# Altium footprint library ST.PcbLib: 22 footprints (part 1 of 2)
Each footprint in its own frame and in the unit in brackets; x right, y up, seen from the top. Pads: shape width x height; smd on the part's side, far side on the other; paste and mask are expansions set on the pad; w line width, h text height; cw(c..) or ccw(c..) is an arc to the next point about the centre after c.
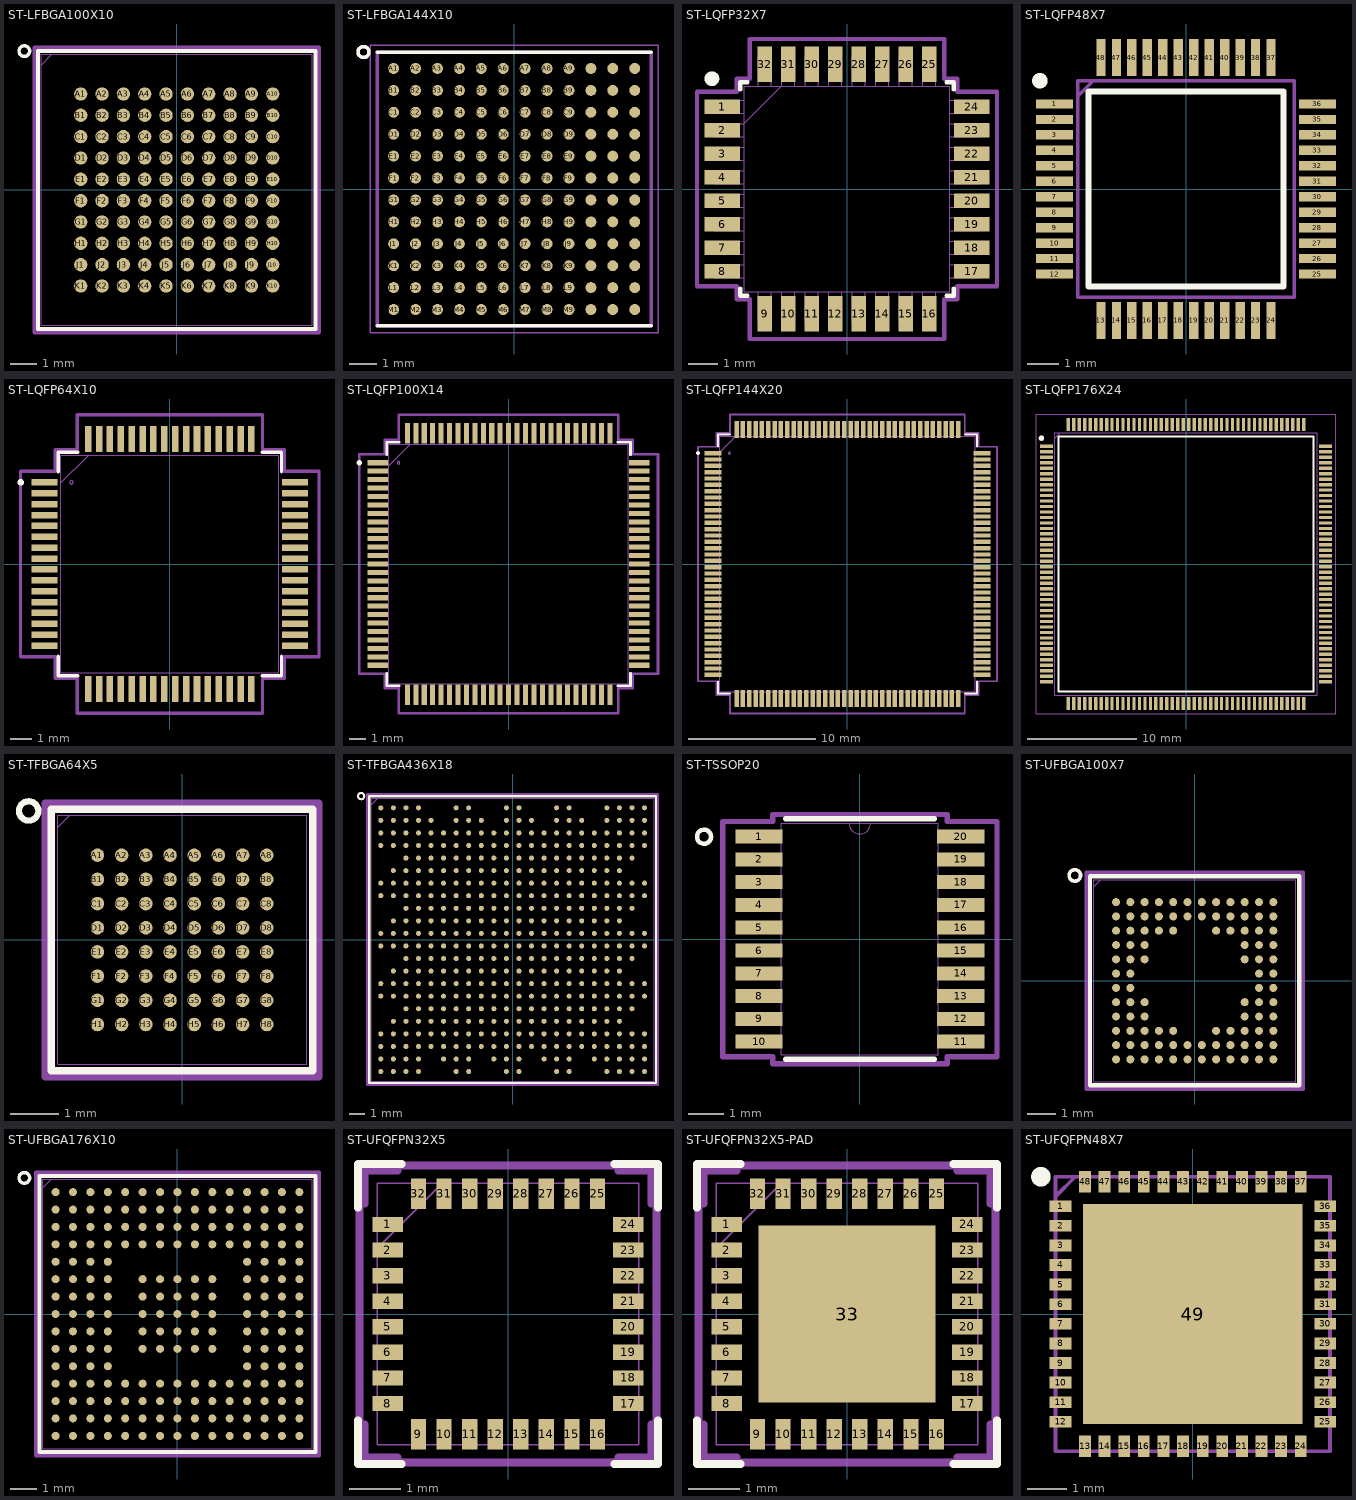
[diagram p0: the footprints below, top view; thin cyan lines are the x and y axes]

## ST-LFBGA100X10 [mm] "意法半导体 LFBGA100 10x10x1.7mm P 08推荐封装"
pads (100):
  round 0.5 smd mask+0.035: A1(-3.6,3.6) A2(-2.8,3.6) A3(-2,3.6) A4(-1.2,3.6) A5(-0.4,3.6) A6(0.4,3.6) A7(1.2,3.6) A8(2,3.6) A9(2.8,3.6) A10(3.6,3.6) B1(-3.6,2.8) B2(-2.8,2.8) B3(-2,2.8) B4(-1.2,2.8) B5(-0.4,2.8) B6(0.4,2.8) B7(1.2,2.8) B8(2,2.8) B9(2.8,2.8) B10(3.6,2.8) C1(-3.6,2) C2(-2.8,2) C3(-2,2) C4(-1.2,2) C5(-0.4,2) C6(0.4,2) C7(1.2,2) C8(2,2) C9(2.8,2) C10(3.6,2) D1(-3.6,1.2) D2(-2.8,1.2) D3(-2,1.2) D4(-1.2,1.2) D5(-0.4,1.2) D6(0.4,1.2) D7(1.2,1.2) D8(2,1.2) D9(2.8,1.2) D10(3.6,1.2) E1(-3.6,0.4) E2(-2.8,0.4) E3(-2,0.4) E4(-1.2,0.4) E5(-0.4,0.4) E6(0.4,0.4) E7(1.2,0.4) E8(2,0.4) E9(2.8,0.4) E10(3.6,0.4) F1(-3.6,-0.4) F2(-2.8,-0.4) F3(-2,-0.4) F4(-1.2,-0.4) F5(-0.4,-0.4) F6(0.4,-0.4) F7(1.2,-0.4) F8(2,-0.4) F9(2.8,-0.4) F10(3.6,-0.4) G1(-3.6,-1.2) G2(-2.8,-1.2) G3(-2,-1.2) G4(-1.2,-1.2) G5(-0.4,-1.2) G6(0.4,-1.2) G7(1.2,-1.2) G8(2,-1.2) G9(2.8,-1.2) G10(3.6,-1.2) H1(-3.6,-2) H2(-2.8,-2) H3(-2,-2) H4(-1.2,-2) H5(-0.4,-2) H6(0.4,-2) H7(1.2,-2) H8(2,-2) H9(2.8,-2) H10(3.6,-2) J1(-3.6,-2.8) J2(-2.8,-2.8) J3(-2,-2.8) J4(-1.2,-2.8) J5(-0.4,-2.8) J6(0.4,-2.8) J7(1.2,-2.8) J8(2,-2.8) J9(2.8,-2.8) J10(3.6,-2.8) K1(-3.6,-3.6) K2(-2.8,-3.6) K3(-2,-3.6) K4(-1.2,-3.6) K5(-0.4,-3.6) K6(0.4,-3.6) K7(1.2,-3.6) K8(2,-3.6) K9(2.8,-3.6) K10(3.6,-3.6)
Top Overlay:
  circle w0.127: c-5.715,5.207 r0.2
  lines w0.152: -5.207,-5.207 5.207,-5.207 5.207,5.207 -5.207,5.207 -5.207,-5.207
Mechanical 13:
  lines w0.025: -5.08,4.68 -4.68,5.08 ; -5.08,-5.08 5.08,-5.08 5.08,5.08 -5.08,5.08 -5.08,-5.08
Mechanical 15:
  lines w0.152: -5.334,-5.334 -5.334,5.334 5.334,5.334 5.334,-5.334 -5.334,-5.334
3D body "LFBGA100.step": height 1.7, standoff 0, extent -5.08,-5.08 5.08,5.08

## ST-LFBGA144X10 [mm] "意法半导体 LFBGA144 10x10x1.7mm P 0.8推荐封装"
pads (144):
  round 0.4 smd mask+0.035: A1(-4.4,4.4) A2(-3.6,4.4) A3(-2.8,4.4) A4(-2,4.4) A5(-1.2,4.4) A6(-0.4,4.4) A7(0.4,4.4) A8(1.2,4.4) A9(2,4.4) A10(2.8,4.4) A11(3.6,4.4) A12(4.4,4.4) B1(-4.4,3.6) B2(-3.6,3.6) B3(-2.8,3.6) B4(-2,3.6) B5(-1.2,3.6) B6(-0.4,3.6) B7(0.4,3.6) B8(1.2,3.6) B9(2,3.6) B10(2.8,3.6) B11(3.6,3.6) B12(4.4,3.6) C1(-4.4,2.8) C2(-3.6,2.8) C3(-2.8,2.8) C4(-2,2.8) C5(-1.2,2.8) C6(-0.4,2.8) C7(0.4,2.8) C8(1.2,2.8) C9(2,2.8) C10(2.8,2.8) C11(3.6,2.8) C12(4.4,2.8) D1(-4.4,2) D2(-3.6,2) D3(-2.8,2) D4(-2,2) D5(-1.2,2) D6(-0.4,2) D7(0.4,2) D8(1.2,2) D9(2,2) D10(2.8,2) D11(3.6,2) D12(4.4,2) E1(-4.4,1.2) E2(-3.6,1.2) E3(-2.8,1.2) E4(-2,1.2) E5(-1.2,1.2) E6(-0.4,1.2) E7(0.4,1.2) E8(1.2,1.2) E9(2,1.2) E10(2.8,1.2) E11(3.6,1.2) E12(4.4,1.2) F1(-4.4,0.4) F2(-3.6,0.4) F3(-2.8,0.4) F4(-2,0.4) F5(-1.2,0.4) F6(-0.4,0.4) F7(0.4,0.4) F8(1.2,0.4) F9(2,0.4) F10(2.8,0.4) F11(3.6,0.4) F12(4.4,0.4) G1(-4.4,-0.4) G2(-3.6,-0.4) G3(-2.8,-0.4) G4(-2,-0.4) G5(-1.2,-0.4) G6(-0.4,-0.4) G7(0.4,-0.4) G8(1.2,-0.4) G9(2,-0.4) G10(2.8,-0.4) G11(3.6,-0.4) G12(4.4,-0.4) H1(-4.4,-1.2) H2(-3.6,-1.2) H3(-2.8,-1.2) H4(-2,-1.2) H5(-1.2,-1.2) H6(-0.4,-1.2) H7(0.4,-1.2) H8(1.2,-1.2) H9(2,-1.2) H10(2.8,-1.2) H11(3.6,-1.2) H12(4.4,-1.2) J1(-4.4,-2) J2(-3.6,-2) J3(-2.8,-2) J4(-2,-2) J5(-1.2,-2) J6(-0.4,-2) J7(0.4,-2) J8(1.2,-2) J9(2,-2) J10(2.8,-2) J11(3.6,-2) J12(4.4,-2) K1(-4.4,-2.8) K2(-3.6,-2.8) K3(-2.8,-2.8) K4(-2,-2.8) K5(-1.2,-2.8) K6(-0.4,-2.8) K7(0.4,-2.8) K8(1.2,-2.8) K9(2,-2.8) K10(2.8,-2.8) K11(3.6,-2.8) K12(4.4,-2.8) L1(-4.4,-3.6) L2(-3.6,-3.6) L3(-2.8,-3.6) L4(-2,-3.6) L5(-1.2,-3.6) L6(-0.4,-3.6) L7(0.4,-3.6) L8(1.2,-3.6) L9(2,-3.6) L10(2.8,-3.6) L11(3.6,-3.6) L12(4.4,-3.6) M1(-4.4,-4.4) M2(-3.6,-4.4) M3(-2.8,-4.4) M4(-2,-4.4) M5(-1.2,-4.4) M6(-0.4,-4.4) M7(0.4,-4.4) M8(1.2,-4.4) M9(2,-4.4) M10(2.8,-4.4) M11(3.6,-4.4) M12(4.4,-4.4)
Top Overlay:
  circle w0.127: c-5.5,5 r0.2
  lines w0.127: -5,-5 5,-5 ; -5,5 5,5
Mechanical 13:
  circle w0.127: c-5.5,5 r0.2
  lines w0.127: -5,-5 5,-5 5,5 -5,5 -5,-5
Mechanical 15:
  lines w0.05: -5.25,-5.25 5.25,-5.25 5.25,5.25 -5.25,5.25 -5.25,-5.25
3D body "LFBGA144.step": height 1.7, standoff 0, extent -5.08,-5.08 5.08,5.08

## ST-LQFP32X7 [mm] "意法半导体 LQFP32 7X7mm推荐封装"
pads (32):
  rect 1.2x0.5 smd mask+0.05: 1(-4.25,2.8) 2(-4.25,2) 3(-4.25,1.2) 4(-4.25,0.4) 5(-4.25,-0.4) 6(-4.25,-1.2) 7(-4.25,-2) 8(-4.25,-2.8) 17(4.25,-2.8) 18(4.25,-2) 19(4.25,-1.2) 20(4.25,-0.4) 21(4.25,0.4) 22(4.25,1.2) 23(4.25,2) 24(4.25,2.8)
  rect 0.5x1.2 smd mask+0.05: 9(-2.8,-4.25) 10(-2,-4.25) 11(-1.2,-4.25) 12(-0.4,-4.25) 13(0.4,-4.25) 14(1.2,-4.25) 15(2,-4.25) 16(2.8,-4.25) 25(2.8,4.25) 26(2,4.25) 27(1.2,4.25) 28(0.4,4.25) 29(-0.4,4.25) 30(-1.2,4.25) 31(-2,4.25) 32(-2.8,4.25)
Top Overlay:
  circle w0.25: c-4.598,3.754 r0.125
  lines w0.152: -3.632,-3.387 -3.632,-3.632 -3.387,-3.632 ; -3.632,3.387 -3.632,3.632 -3.387,3.632 ; 3.387,-3.632 3.632,-3.632 3.632,-3.387 ; 3.387,3.632 3.632,3.632 3.632,3.387
Mechanical 13:
  lines w0.025: -3.505,2.235 -2.235,3.505 ; -4.496,-3.029 -4.496,-2.571 -3.505,-2.571 -3.505,-3.029 -4.496,-3.029 ; -4.496,-2.229 -4.496,-1.771 -3.505,-1.771 -3.505,-2.229 -4.496,-2.229 ; -4.496,-1.429 -4.496,-0.971 -3.505,-0.971 -3.505,-1.429 -4.496,-1.429 ; -4.496,-0.629 -4.496,-0.171 -3.505,-0.171 -3.505,-0.629 -4.496,-0.629 ; -4.496,0.171 -4.496,0.629 -3.505,0.629 -3.505,0.171 -4.496,0.171 ; -4.496,0.971 -4.496,1.429 -3.505,1.429 -3.505,0.971 -4.496,0.971 ; -4.496,1.771 -4.496,2.229 -3.505,2.229 -3.505,1.771 -4.496,1.771 ; -4.496,2.571 -4.496,3.029 -3.505,3.029 -3.505,2.571 -4.496,2.571 ; -3.505,-3.505 3.505,-3.505 3.505,3.505 -3.505,3.505 -3.505,-3.505 ; -3.029,-4.496 -3.029,-3.505 -2.571,-3.505 -2.571,-4.496 -3.029,-4.496 ; -3.029,3.505 -2.571,3.505 -2.571,4.496 -3.029,4.496 -3.029,3.505 ; -2.229,-4.496 -2.229,-3.505 -1.771,-3.505 -1.771,-4.496 -2.229,-4.496 ; -2.229,3.505 -1.771,3.505 -1.771,4.496 -2.229,4.496 -2.229,3.505 ; -1.429,-4.496 -1.429,-3.505 -0.971,-3.505 -0.971,-4.496 -1.429,-4.496 ; -1.429,3.505 -0.971,3.505 -0.971,4.496 -1.429,4.496 -1.429,3.505 ; -0.629,-4.496 -0.629,-3.505 -0.171,-3.505 -0.171,-4.496 -0.629,-4.496 ; -0.629,3.505 -0.171,3.505 -0.171,4.496 -0.629,4.496 -0.629,3.505 ; 0.171,-4.496 0.171,-3.505 0.629,-3.505 0.629,-4.496 0.171,-4.496 ; 0.171,3.505 0.629,3.505 0.629,4.496 0.171,4.496 0.171,3.505 ; 0.971,-4.496 0.971,-3.505 1.429,-3.505 1.429,-4.496 0.971,-4.496 ; 0.971,3.505 1.429,3.505 1.429,4.496 0.971,4.496 0.971,3.505 ; 1.771,-4.496 1.771,-3.505 2.229,-3.505 2.229,-4.496 1.771,-4.496 ; 1.771,3.505 2.229,3.505 2.229,4.496 1.771,4.496 1.771,3.505 ; 2.571,-4.496 2.571,-3.505 3.029,-3.505 3.029,-4.496 2.571,-4.496 ; 2.571,3.505 3.029,3.505 3.029,4.496 2.571,4.496 2.571,3.505 ; 3.505,-3.029 3.505,-2.571 4.496,-2.571 4.496,-3.029 3.505,-3.029 ; 3.505,-2.229 3.505,-1.771 4.496,-1.771 4.496,-2.229 3.505,-2.229 ; 3.505,-1.429 3.505,-0.971 4.496,-0.971 4.496,-1.429 3.505,-1.429 ; 3.505,-0.629 3.505,-0.171 4.496,-0.171 4.496,-0.629 3.505,-0.629 ; 3.505,0.171 3.505,0.629 4.496,0.629 4.496,0.171 3.505,0.171 ; 3.505,0.971 3.505,1.429 4.496,1.429 4.496,0.971 3.505,0.971 ; 3.505,1.771 3.505,2.229 4.496,2.229 4.496,1.771 3.505,1.771 ; 3.505,2.571 3.505,3.029 4.496,3.029 4.496,2.571 3.505,2.571
Mechanical 15:
  lines w0.152: -5.105,-3.308 -3.759,-3.308 -3.759,-3.759 -3.308,-3.759 -3.308,-5.105 3.308,-5.105 3.308,-3.759 3.759,-3.759 3.759,-3.308 5.105,-3.308 5.105,3.308 3.759,3.308 3.759,3.759 3.308,3.759 3.308,5.105 -3.308,5.105 -3.308,3.759 -3.759,3.759 -3.759,3.308 -5.105,3.308 -5.105,-3.308
3D body "LQFP32.step": height 1.6, standoff 0, extent -4.496,-4.496 4.496,4.496

## ST-LQFP48X7 [mm] "意法半导体 LQFP48 7x7mm推荐封装"
pads (48):
  rect 1.2x0.3 smd mask+0.07: 1(-4.25,2.75) 2(-4.25,2.25) 3(-4.25,1.75) 4(-4.25,1.25) 5(-4.25,0.75) 6(-4.25,0.25) 7(-4.25,-0.25) 8(-4.25,-0.75) 9(-4.25,-1.25) 10(-4.25,-1.75) 11(-4.25,-2.25) 12(-4.25,-2.75) 25(4.25,-2.75) 26(4.25,-2.25) 27(4.25,-1.75) 28(4.25,-1.25) 29(4.25,-0.75) 30(4.25,-0.25) 31(4.25,0.25) 32(4.25,0.75) 33(4.25,1.25) 34(4.25,1.75) 35(4.25,2.25) 36(4.25,2.75)
  rect 0.3x1.2 smd mask+0.07: 13(-2.75,-4.25) 14(-2.25,-4.25) 15(-1.75,-4.25) 16(-1.25,-4.25) 17(-0.75,-4.25) 18(-0.25,-4.25) 19(0.25,-4.25) 20(0.75,-4.25) 21(1.25,-4.25) 22(1.75,-4.25) 23(2.25,-4.25) 24(2.75,-4.25) 37(2.75,4.25) 38(2.25,4.25) 39(1.75,4.25) 40(1.25,4.25) 41(0.75,4.25) 42(0.25,4.25) 43(-0.25,4.25) 44(-0.75,4.25) 45(-1.25,4.25) 46(-1.75,4.25) 47(-2.25,4.25) 48(-2.75,4.25)
Top Overlay:
  circle w0.25: c-4.725,3.5 r0.125
  lines w0.2: -3.15,-3.15 -3.15,3.15 3.15,3.15 3.15,-3.15 -3.15,-3.15
Mechanical 15:
  lines w0.1: -3.5,3 -3,3.5 ; -3.5,-3.5 -3.5,3.5 3.5,3.5 3.5,-3.5 -3.5,-3.5
3D body "LQFP48X7.stp": height 1.6, standoff 0, extent -4.5,-4.5 4.5,4.5

## ST-LQFP64X10 [mm] "意法半导体 LQFP64 10X10x1.4mm推荐封装"
pads (64):
  rect 1.2x0.3 smd paste+0 mask+0.05: 1(-5.75,3.75) 2(-5.75,3.25) 3(-5.75,2.75) 4(-5.75,2.25) 5(-5.75,1.75) 6(-5.75,1.25) 7(-5.75,0.75) 8(-5.75,0.25) 9(-5.75,-0.25) 10(-5.75,-0.75) 11(-5.75,-1.25) 12(-5.75,-1.75) 13(-5.75,-2.25) 14(-5.75,-2.75) 15(-5.75,-3.25) 16(-5.75,-3.75) 33(5.75,-3.75) 34(5.75,-3.25) 35(5.75,-2.75) 36(5.75,-2.25) 37(5.75,-1.75) 38(5.75,-1.25) 39(5.75,-0.75) 40(5.75,-0.25) 41(5.75,0.25) 42(5.75,0.75) 43(5.75,1.25) 44(5.75,1.75) 45(5.75,2.25) 46(5.75,2.75) 47(5.75,3.25) 48(5.75,3.75)
  rect 0.3x1.2 smd paste+0 mask+0.05: 17(-3.75,-5.75) 18(-3.25,-5.75) 19(-2.75,-5.75) 20(-2.25,-5.75) 21(-1.75,-5.75) 22(-1.25,-5.75) 23(-0.75,-5.75) 24(-0.25,-5.75) 25(0.25,-5.75) 26(0.75,-5.75) 27(1.25,-5.75) 28(1.75,-5.75) 29(2.25,-5.75) 30(2.75,-5.75) 31(3.25,-5.75) 32(3.75,-5.75) 49(3.75,5.75) 50(3.25,5.75) 51(2.75,5.75) 52(2.25,5.75) 53(1.75,5.75) 54(1.25,5.75) 55(0.75,5.75) 56(0.25,5.75) 57(-0.25,5.75) 58(-0.75,5.75) 59(-1.25,5.75) 60(-1.75,5.75) 61(-2.25,5.75) 62(-2.75,5.75) 63(-3.25,5.75) 64(-3.75,5.75)
Top Overlay:
  circle w0.152: c-6.851,3.75 r0.076
  lines w0.152: -5.131,-4.234 -5.131,-5.131 -4.234,-5.131 ; -5.131,4.234 -5.131,5.131 -4.234,5.131 ; 4.234,-5.131 5.131,-5.131 5.131,-4.234 ; 4.234,5.131 5.131,5.131 5.131,4.234
Mechanical 13:
  circle w0: c-4.518,3.75 r0.076
  lines w0.025: -5.004,3.734 -3.734,5.004 ; -5.004,-5.004 5.004,-5.004 5.004,5.004 -5.004,5.004 -5.004,-5.004
Mechanical 15:
  lines w0.152: -6.855,-4.258 -5.258,-4.258 -5.258,-5.258 -4.258,-5.258 -4.258,-6.855 4.258,-6.855 4.258,-5.258 5.258,-5.258 5.258,-4.258 6.855,-4.258 6.855,4.258 5.258,4.258 5.258,5.258 4.258,5.258 4.258,6.855 -4.258,6.855 -4.258,5.258 -5.258,5.258 -5.258,4.258 -6.855,4.258 -6.855,-4.258
3D body "LQFP64X10.step": height 1.6, standoff 0, extent -5.997,-5.997 5.997,5.997

## ST-LQFP100X14 [mm] "意法半导体 LQFP64 10X10x1.4mm推荐封装"
pads (100):
  rect 1.2x0.3 smd mask+0.05: 1(-7.75,6) 2(-7.75,5.5) 3(-7.75,5) 4(-7.75,4.5) 5(-7.75,4) 6(-7.75,3.5) 7(-7.75,3) 8(-7.75,2.5) 9(-7.75,2) 10(-7.75,1.5) 11(-7.75,1) 12(-7.75,0.5) 13(-7.75,0) 14(-7.75,-0.5) 15(-7.75,-1) 16(-7.75,-1.5) 17(-7.75,-2) 18(-7.75,-2.5) 19(-7.75,-3) 20(-7.75,-3.5) 21(-7.75,-4) 22(-7.75,-4.5) 23(-7.75,-5) 24(-7.75,-5.5) 25(-7.75,-6) 51(7.75,-6) 52(7.75,-5.5) 53(7.75,-5) 54(7.75,-4.5) 55(7.75,-4) 56(7.75,-3.5) 57(7.75,-3) 58(7.75,-2.5) 59(7.75,-2) 60(7.75,-1.5) 61(7.75,-1) 62(7.75,-0.5) 63(7.75,0) 64(7.75,0.5) 65(7.75,1) 66(7.75,1.5) 67(7.75,2) 68(7.75,2.5) 69(7.75,3) 70(7.75,3.5) 71(7.75,4) 72(7.75,4.5) 73(7.75,5) 74(7.75,5.5) 75(7.75,6)
  rect 0.3x1.2 smd mask+0.05: 26(-6,-7.75) 27(-5.5,-7.75) 28(-5,-7.75) 29(-4.5,-7.75) 30(-4,-7.75) 31(-3.5,-7.75) 32(-3,-7.75) 33(-2.5,-7.75) 34(-2,-7.75) 35(-1.5,-7.75) 36(-1,-7.75) 37(-0.5,-7.75) 38(0,-7.75) 39(0.5,-7.75) 40(1,-7.75) 41(1.5,-7.75) 42(2,-7.75) 43(2.5,-7.75) 44(3,-7.75) 45(3.5,-7.75) 46(4,-7.75) 47(4.5,-7.75) 48(5,-7.75) 49(5.5,-7.75) 50(6,-7.75) 76(6,7.75) 77(5.5,7.75) 78(5,7.75) 79(4.5,7.75) 80(4,7.75) 81(3.5,7.75) 82(3,7.75) 83(2.5,7.75) 84(2,7.75) 85(1.5,7.75) 86(1,7.75) 87(0.5,7.75) 88(0,7.75) 89(-0.5,7.75) 90(-1,7.75) 91(-1.5,7.75) 92(-2,7.75) 93(-2.5,7.75) 94(-3,7.75) 95(-3.5,7.75) 96(-4,7.75) 97(-4.5,7.75) 98(-5,7.75) 99(-5.5,7.75) 100(-6,7.75)
Top Overlay:
  circle w0.152: c-8.851,6 r0.076
  lines w0.152: -7.226,-6.485 -7.226,-7.226 -6.485,-7.226 ; -7.226,6.485 -7.226,7.226 -6.485,7.226 ; 6.485,-7.226 7.226,-7.226 7.226,-6.485 ; 6.485,7.226 7.226,7.226 7.226,6.485
Mechanical 13:
  circle w0: c-6.518,6 r0.076
  lines w0.025: -7.099,5.829 -5.829,7.099 ; -7.099,-7.099 -7.099,7.099 7.099,7.099 7.099,-7.099 -7.099,-7.099
Mechanical 15:
  lines w0.152: -8.855,-6.508 -8.855,6.508 -7.353,6.508 -7.353,7.353 -6.508,7.353 -6.508,8.855 6.508,8.855 6.508,7.353 7.353,7.353 7.353,6.508 8.855,6.508 8.855,-6.508 7.353,-6.508 7.353,-7.353 6.508,-7.353 6.508,-8.855 -6.508,-8.855 -6.508,-7.353 -7.353,-7.353 -7.353,-6.508 -8.855,-6.508
3D body "LQFP100X14.step": height 1.6, standoff 0, extent -7.997,-7.997 7.997,7.997

## ST-LQFP144X20 [mm] "意法半导体 LQFP144 20X20x1.4mm推荐封装"
pads (144):
  rect 1.35x0.35 smd mask+0.05: 1(-10.625,8.75) 2(-10.625,8.25) 3(-10.625,7.75) 4(-10.625,7.25) 5(-10.625,6.75) 6(-10.625,6.25) 7(-10.625,5.75) 8(-10.625,5.25) 9(-10.625,4.75) 10(-10.625,4.25) 11(-10.625,3.75) 12(-10.625,3.25) 13(-10.625,2.75) 14(-10.625,2.25) 15(-10.625,1.75) 16(-10.625,1.25) 17(-10.625,0.75) 18(-10.625,0.25) 19(-10.625,-0.25) 20(-10.625,-0.75) 21(-10.625,-1.25) 22(-10.625,-1.75) 23(-10.625,-2.25) 24(-10.625,-2.75) 25(-10.625,-3.25) 26(-10.625,-3.75) 27(-10.625,-4.25) 28(-10.625,-4.75) 29(-10.625,-5.25) 30(-10.625,-5.75) 31(-10.625,-6.25) 32(-10.625,-6.75) 33(-10.625,-7.25) 34(-10.625,-7.75) 35(-10.625,-8.25) 36(-10.625,-8.75) 73(10.625,-8.75) 74(10.625,-8.25) 75(10.625,-7.75) 76(10.625,-7.25) 77(10.625,-6.75) 78(10.625,-6.25) 79(10.625,-5.75) 80(10.625,-5.25) 81(10.625,-4.75) 82(10.625,-4.25) 83(10.625,-3.75) 84(10.625,-3.25) 85(10.625,-2.75) 86(10.625,-2.25) 87(10.625,-1.75) 88(10.625,-1.25) 89(10.625,-0.75) 90(10.625,-0.25) 91(10.625,0.25) 92(10.625,0.75) 93(10.625,1.25) 94(10.625,1.75) 95(10.625,2.25) 96(10.625,2.75) 97(10.625,3.25) 98(10.625,3.75) 99(10.625,4.25) 100(10.625,4.75) 101(10.625,5.25) 102(10.625,5.75) 103(10.625,6.25) 104(10.625,6.75) 105(10.625,7.25) 106(10.625,7.75) 107(10.625,8.25) 108(10.625,8.75)
  rect 0.35x1.35 smd mask+0.05: 37(-8.75,-10.625) 38(-8.25,-10.625) 39(-7.75,-10.625) 40(-7.25,-10.625) 41(-6.75,-10.625) 42(-6.25,-10.625) 43(-5.75,-10.625) 44(-5.25,-10.625) 45(-4.75,-10.625) 46(-4.25,-10.625) 47(-3.75,-10.625) 48(-3.25,-10.625) 49(-2.75,-10.625) 50(-2.25,-10.625) 51(-1.75,-10.625) 52(-1.25,-10.625) 53(-0.75,-10.625) 54(-0.25,-10.625) 55(0.25,-10.625) 56(0.75,-10.625) 57(1.25,-10.625) 58(1.75,-10.625) 59(2.25,-10.625) 60(2.75,-10.625) 61(3.25,-10.625) 62(3.75,-10.625) 63(4.25,-10.625) 64(4.75,-10.625) 65(5.25,-10.625) 66(5.75,-10.625) 67(6.25,-10.625) 68(6.75,-10.625) 69(7.25,-10.625) 70(7.75,-10.625) 71(8.25,-10.625) 72(8.75,-10.625) 109(8.75,10.625) 110(8.25,10.625) 111(7.75,10.625) 112(7.25,10.625) 113(6.75,10.625) 114(6.25,10.625) 115(5.75,10.625) 116(5.25,10.625) 117(4.75,10.625) 118(4.25,10.625) 119(3.75,10.625) 120(3.25,10.625) 121(2.75,10.625) 122(2.25,10.625) 123(1.75,10.625) 124(1.25,10.625) 125(0.75,10.625) 126(0.25,10.625) 127(-0.25,10.625) 128(-0.75,10.625) 129(-1.25,10.625) 130(-1.75,10.625) 131(-2.25,10.625) 132(-2.75,10.625) 133(-3.25,10.625) 134(-3.75,10.625) 135(-4.25,10.625) 136(-4.75,10.625) 137(-5.25,10.625) 138(-5.75,10.625) 139(-6.25,10.625) 140(-6.75,10.625) 141(-7.25,10.625) 142(-7.75,10.625) 143(-8.25,10.625) 144(-8.75,10.625)
Top Overlay:
  circle w0.152: c-11.802,8.75 r0.076
  lines w0.152: -10.223,-9.261 -10.223,-10.223 -9.261,-10.223 ; -10.223,9.261 -10.223,10.223 -9.261,10.223 ; 9.261,-10.223 10.223,-10.223 10.223,-9.261 ; 9.261,10.223 10.223,10.223 10.223,9.261
Mechanical 13:
  circle w0: c-9.317,8.75 r0.076
  lines w0.025: -10.096,8.826 -8.826,10.096 ; -10.096,-10.096 10.096,-10.096 10.096,10.096 -10.096,10.096 -10.096,-10.096
Mechanical 15:
  lines w0.152: -11.806,-9.258 -10.351,-9.258 -10.351,-10.351 -9.258,-10.351 -9.258,-11.806 9.258,-11.806 9.258,-10.351 10.351,-10.351 10.351,-9.258 11.806,-9.258 11.806,9.258 10.351,9.258 10.351,10.351 9.258,10.351 9.258,11.806 -9.258,11.806 -9.258,10.351 -10.351,10.351 -10.351,9.258 -11.806,9.258 -11.806,-9.258
3D body "LQFP144X20.step": height 1.6, standoff 0, extent -10.948,-10.948 10.948,10.948

## ST-LQFP176X24 [mm] "意法半导体 LQFP176 24X24x1.4mm推荐封装"
pads (176):
  rect 1.2x0.3 smd mask+0.05: 1(-12.75,10.75) 2(-12.75,10.25) 3(-12.75,9.75) 4(-12.75,9.25) 5(-12.75,8.75) 6(-12.75,8.25) 7(-12.75,7.75) 8(-12.75,7.25) 9(-12.75,6.75) 10(-12.75,6.25) 11(-12.75,5.75) 12(-12.75,5.25) 13(-12.75,4.75) 14(-12.75,4.25) 15(-12.75,3.75) 16(-12.75,3.25) 17(-12.75,2.75) 18(-12.75,2.25) 19(-12.75,1.75) 20(-12.75,1.25) 21(-12.75,0.75) 22(-12.75,0.25) 23(-12.75,-0.25) 24(-12.75,-0.75) 25(-12.75,-1.25) 26(-12.75,-1.75) 27(-12.75,-2.25) 28(-12.75,-2.75) 29(-12.75,-3.25) 30(-12.75,-3.75) 31(-12.75,-4.25) 32(-12.75,-4.75) 33(-12.75,-5.25) 34(-12.75,-5.75) 35(-12.75,-6.25) 36(-12.75,-6.75) 37(-12.75,-7.25) 38(-12.75,-7.75) 39(-12.75,-8.25) 40(-12.75,-8.75) 41(-12.75,-9.25) 42(-12.75,-9.75) 43(-12.75,-10.25) 44(-12.75,-10.75) 89(12.75,-10.75) 90(12.75,-10.25) 91(12.75,-9.75) 92(12.75,-9.25) 93(12.75,-8.75) 94(12.75,-8.25) 95(12.75,-7.75) 96(12.75,-7.25) 97(12.75,-6.75) 98(12.75,-6.25) 99(12.75,-5.75) 100(12.75,-5.25) 101(12.75,-4.75) 102(12.75,-4.25) 103(12.75,-3.75) 104(12.75,-3.25) 105(12.75,-2.75) 106(12.75,-2.25) 107(12.75,-1.75) 108(12.75,-1.25) 109(12.75,-0.75) 110(12.75,-0.25) 111(12.75,0.25) 112(12.75,0.75) 113(12.75,1.25) 114(12.75,1.75) 115(12.75,2.25) 116(12.75,2.75) 117(12.75,3.25) 118(12.75,3.75) 119(12.75,4.25) 120(12.75,4.75) 121(12.75,5.25) 122(12.75,5.75) 123(12.75,6.25) 124(12.75,6.75) 125(12.75,7.25) 126(12.75,7.75) 127(12.75,8.25) 128(12.75,8.75) 129(12.75,9.25) 130(12.75,9.75) 131(12.75,10.25) 132(12.75,10.75)
  rect 0.3x1.2 smd mask+0.05: 45(-10.75,-12.75) 46(-10.25,-12.75) 47(-9.75,-12.75) 48(-9.25,-12.75) 49(-8.75,-12.75) 50(-8.25,-12.75) 51(-7.75,-12.75) 52(-7.25,-12.75) 53(-6.75,-12.75) 54(-6.25,-12.75) 55(-5.75,-12.75) 56(-5.25,-12.75) 57(-4.75,-12.75) 58(-4.25,-12.75) 59(-3.75,-12.75) 60(-3.25,-12.75) 61(-2.75,-12.75) 62(-2.25,-12.75) 63(-1.75,-12.75) 64(-1.25,-12.75) 65(-0.75,-12.75) 66(-0.25,-12.75) 67(0.25,-12.75) 68(0.75,-12.75) 69(1.25,-12.75) 70(1.75,-12.75) 71(2.25,-12.75) 72(2.75,-12.75) 73(3.25,-12.75) 74(3.75,-12.75) 75(4.25,-12.75) 76(4.75,-12.75) 77(5.25,-12.75) 78(5.75,-12.75) 79(6.25,-12.75) 80(6.75,-12.75) 81(7.25,-12.75) 82(7.75,-12.75) 83(8.25,-12.75) 84(8.75,-12.75) 85(9.25,-12.75) 86(9.75,-12.75) 87(10.25,-12.75) 88(10.75,-12.75) 133(10.75,12.75) 134(10.25,12.75) 135(9.75,12.75) 136(9.25,12.75) 137(8.75,12.75) 138(8.25,12.75) 139(7.75,12.75) 140(7.25,12.75) 141(6.75,12.75) 142(6.25,12.75) 143(5.75,12.75) 144(5.25,12.75) 145(4.75,12.75) 146(4.25,12.75) 147(3.75,12.75) 148(3.25,12.75) 149(2.75,12.75) 150(2.25,12.75) 151(1.75,12.75) 152(1.25,12.75) 153(0.75,12.75) 154(0.25,12.75) 155(-0.25,12.75) 156(-0.75,12.75) 157(-1.25,12.75) 158(-1.75,12.75) 159(-2.25,12.75) 160(-2.75,12.75) 161(-3.25,12.75) 162(-3.75,12.75) 163(-4.25,12.75) 164(-4.75,12.75) 165(-5.25,12.75) 166(-5.75,12.75) 167(-6.25,12.75) 168(-6.75,12.75) 169(-7.25,12.75) 170(-7.75,12.75) 171(-8.25,12.75) 172(-8.75,12.75) 173(-9.25,12.75) 174(-9.75,12.75) 175(-10.25,12.75) 176(-10.75,12.75)
Top Overlay:
  circle w0.25: c-13.2,11.5 r0.125
  lines w0.2: -11.65,-11.65 -11.65,11.65 11.65,11.65 11.65,-11.65 -11.65,-11.65
Mechanical 15:
  lines w0.1: -12,11.5 -11.5,12 ; -12,-12 -12,12 12,12 12,-12 -12,-12
Mechanical 20:
  lines w0.05: -13.7,-13.7 -13.7,13.7 13.7,13.7 13.7,-13.7 -13.7,-13.7
3D body "LQFP176X24.stp": height 1.6, standoff 0, extent -13,-13 13,13

## ST-TFBGA64X5 [mm] "意法半导体 TFBGA64 5X5x1.2mm推荐封装"
pads (64):
  round 0.28 smd paste+0 mask+0.045: A1(-1.751,1.751) A2(-1.251,1.751) A3(-0.751,1.751) A4(-0.25,1.751) A5(0.25,1.751) A6(0.751,1.751) A7(1.251,1.751) A8(1.751,1.751) B1(-1.751,1.251) B2(-1.251,1.251) B3(-0.751,1.251) B4(-0.25,1.251) B5(0.25,1.251) B6(0.751,1.251) B7(1.251,1.251) B8(1.751,1.251) C1(-1.751,0.751) C2(-1.251,0.751) C3(-0.751,0.751) C4(-0.25,0.751) C5(0.25,0.751) C6(0.751,0.751) C7(1.251,0.751) C8(1.751,0.751) D1(-1.751,0.25) D2(-1.251,0.25) D3(-0.751,0.25) D4(-0.25,0.25) D5(0.25,0.25) D6(0.751,0.25) D7(1.251,0.25) D8(1.751,0.25) E1(-1.751,-0.25) E2(-1.251,-0.25) E3(-0.751,-0.25) E4(-0.25,-0.25) E5(0.25,-0.25) E6(0.751,-0.25) E7(1.251,-0.25) E8(1.751,-0.25) F1(-1.751,-0.751) F2(-1.251,-0.751) F3(-0.751,-0.751) F4(-0.25,-0.751) F5(0.25,-0.751) F6(0.751,-0.751) F7(1.251,-0.751) F8(1.751,-0.751) G1(-1.751,-1.251) G2(-1.251,-1.251) G3(-0.751,-1.251) G4(-0.25,-1.251) G5(0.25,-1.251) G6(0.751,-1.251) G7(1.251,-1.251) G8(1.751,-1.251) H1(-1.751,-1.751) H2(-1.251,-1.751) H3(-0.751,-1.751) H4(-0.25,-1.751) H5(0.25,-1.751) H6(0.751,-1.751) H7(1.251,-1.751) H8(1.751,-1.751)
Top Overlay:
  circle w0.127: c-3.175,2.667 r0.2
  lines w0.152: -2.705,-2.705 2.705,-2.705 2.705,2.705 -2.705,2.705 -2.705,-2.705
Mechanical 13:
  lines w0.025: -2.578,2.328 -2.328,2.578 ; -2.578,-2.578 2.578,-2.578 2.578,2.578 -2.578,2.578 -2.578,-2.578
Mechanical 15:
  lines w0.152: -2.832,-2.832 -2.832,2.832 2.832,2.832 2.832,-2.832 -2.832,-2.832
3D body "TFBGA64X5.step": height 1.2, standoff 0, extent -2.578,-2.578 2.578,2.578

## ST-TFBGA436X18 [mm] "意法半导体 TFBGA64 18X18x1.2mm P 0.8 推荐封装"
pads (436):
  round 0.32 smd paste+0 mask+0.05: A1(-8.4,8.4) A2(-7.6,8.4) A3(-6.8,8.4) A4(-6,8.4) A7(-3.6,8.4) A8(-2.8,8.4) A11(-0.4,8.4) A12(0.4,8.4) A15(2.8,8.4) A16(3.6,8.4) A19(6,8.4) A20(6.8,8.4) A21(7.6,8.4) A22(8.4,8.4) AA1(-8.4,-7.6) AA2(-7.6,-7.6) AA3(-6.8,-7.6) AA4(-6,-7.6) AA6(-4.4,-7.6) AA7(-3.6,-7.6) AA8(-2.8,-7.6) AA10(-1.2,-7.6) AA11(-0.4,-7.6) AA12(0.4,-7.6) AA14(2,-7.6) AA15(2.8,-7.6) AA16(3.6,-7.6) AA18(5.2,-7.6) AA19(6,-7.6) AA20(6.8,-7.6) AA21(7.6,-7.6) AA22(8.4,-7.6) AB1(-8.4,-8.4) AB2(-7.6,-8.4) AB3(-6.8,-8.4) AB4(-6,-8.4) AB7(-3.6,-8.4) AB8(-2.8,-8.4) AB11(-0.4,-8.4) AB12(0.4,-8.4) AB15(2.8,-8.4) AB16(3.6,-8.4) AB19(6,-8.4) AB20(6.8,-8.4) AB21(7.6,-8.4) AB22(8.4,-8.4) B1(-8.4,7.6) B2(-7.6,7.6) B3(-6.8,7.6) B4(-6,7.6) B5(-5.2,7.6) B7(-3.6,7.6) B8(-2.8,7.6) B9(-2,7.6) B11(-0.4,7.6) B12(0.4,7.6) B13(1.2,7.6) B15(2.8,7.6) B16(3.6,7.6) B17(4.4,7.6) B19(6,7.6) B20(6.8,7.6) B21(7.6,7.6) B22(8.4,7.6) C1(-8.4,6.8) C2(-7.6,6.8) C3(-6.8,6.8) C4(-6,6.8) C5(-5.2,6.8) C6(-4.4,6.8) C7(-3.6,6.8) C8(-2.8,6.8) C9(-2,6.8) C10(-1.2,6.8) C11(-0.4,6.8) C12(0.4,6.8) C13(1.2,6.8) C14(2,6.8) C15(2.8,6.8) C16(3.6,6.8) C17(4.4,6.8) C18(5.2,6.8) C19(6,6.8) C20(6.8,6.8) C21(7.6,6.8) C22(8.4,6.8) D1(-8.4,6) D2(-7.6,6) D3(-6.8,6) D4(-6,6) D5(-5.2,6) D6(-4.4,6) D7(-3.6,6) D8(-2.8,6) D9(-2,6) D10(-1.2,6) D11(-0.4,6) D12(0.4,6) D13(1.2,6) D14(2,6) D15(2.8,6) D16(3.6,6) D17(4.4,6) D18(5.2,6) D19(6,6) D20(6.8,6) D21(7.6,6) D22(8.4,6) E3(-6.8,5.2) E4(-6,5.2) E5(-5.2,5.2) E6(-4.4,5.2) E7(-3.6,5.2) E8(-2.8,5.2) E9(-2,5.2) E10(-1.2,5.2) E11(-0.4,5.2) E12(0.4,5.2) E13(1.2,5.2) E14(2,5.2) E15(2.8,5.2) E16(3.6,5.2) E17(4.4,5.2) E18(5.2,5.2) E19(6,5.2) E20(6.8,5.2) E21(7.6,5.2) F2(-7.6,4.4) F3(-6.8,4.4) F4(-6,4.4) F5(-5.2,4.4) F6(-4.4,4.4) F7(-3.6,4.4) F8(-2.8,4.4) F9(-2,4.4) F10(-1.2,4.4) F11(-0.4,4.4) F12(0.4,4.4) F13(1.2,4.4) F14(2,4.4) F15(2.8,4.4) F16(3.6,4.4) F17(4.4,4.4) F18(5.2,4.4) F19(6,4.4) F20(6.8,4.4) G1(-8.4,3.6) G2(-7.6,3.6) G3(-6.8,3.6) G4(-6,3.6) G5(-5.2,3.6) G6(-4.4,3.6) G7(-3.6,3.6) G8(-2.8,3.6) G9(-2,3.6) G10(-1.2,3.6) G11(-0.4,3.6) G12(0.4,3.6) G13(1.2,3.6) G14(2,3.6) G15(2.8,3.6) G16(3.6,3.6) G17(4.4,3.6) G18(5.2,3.6) G19(6,3.6) G20(6.8,3.6) G21(7.6,3.6) G22(8.4,3.6) H1(-8.4,2.8) H2(-7.6,2.8) H3(-6.8,2.8) H4(-6,2.8) H5(-5.2,2.8) H6(-4.4,2.8) H7(-3.6,2.8) H8(-2.8,2.8) H9(-2,2.8) H10(-1.2,2.8) H11(-0.4,2.8) H12(0.4,2.8) H13(1.2,2.8) H14(2,2.8) H15(2.8,2.8) H16(3.6,2.8) H17(4.4,2.8) H18(5.2,2.8) H19(6,2.8) H20(6.8,2.8) H21(7.6,2.8) H22(8.4,2.8) J3(-6.8,2) J4(-6,2) J5(-5.2,2) J6(-4.4,2) J7(-3.6,2) J8(-2.8,2) J9(-2,2) J10(-1.2,2) J11(-0.4,2) J12(0.4,2) J13(1.2,2) J14(2,2) J15(2.8,2) J16(3.6,2) J17(4.4,2) J18(5.2,2) J19(6,2) J20(6.8,2) J21(7.6,2) K2(-7.6,1.2) K3(-6.8,1.2) K4(-6,1.2) K5(-5.2,1.2) K6(-4.4,1.2) K7(-3.6,1.2) K8(-2.8,1.2) K9(-2,1.2) K10(-1.2,1.2) K11(-0.4,1.2) K12(0.4,1.2) K13(1.2,1.2) K14(2,1.2) K15(2.8,1.2) K16(3.6,1.2) K17(4.4,1.2) K18(5.2,1.2) K19(6,1.2) K20(6.8,1.2) L1(-8.4,0.4) L2(-7.6,0.4) L3(-6.8,0.4) L4(-6,0.4) L5(-5.2,0.4) L6(-4.4,0.4) L7(-3.6,0.4) L8(-2.8,0.4) L9(-2,0.4) L10(-1.2,0.4) L11(-0.4,0.4) L12(0.4,0.4) L13(1.2,0.4) L14(2,0.4) L15(2.8,0.4) L16(3.6,0.4) L17(4.4,0.4) L18(5.2,0.4) L19(6,0.4) L20(6.8,0.4) L21(7.6,0.4) L22(8.4,0.4) M1(-8.4,-0.4) M2(-7.6,-0.4) M3(-6.8,-0.4) M4(-6,-0.4) M5(-5.2,-0.4) M6(-4.4,-0.4) M7(-3.6,-0.4) M8(-2.8,-0.4) M9(-2,-0.4) M10(-1.2,-0.4) M11(-0.4,-0.4) M12(0.4,-0.4) M13(1.2,-0.4) M14(2,-0.4) M15(2.8,-0.4) M16(3.6,-0.4) M17(4.4,-0.4) M18(5.2,-0.4) M19(6,-0.4) M20(6.8,-0.4) M21(7.6,-0.4) M22(8.4,-0.4) N3(-6.8,-1.2) N4(-6,-1.2) N5(-5.2,-1.2) N6(-4.4,-1.2) N7(-3.6,-1.2) N8(-2.8,-1.2) N9(-2,-1.2) N10(-1.2,-1.2) N11(-0.4,-1.2) N12(0.4,-1.2) N13(1.2,-1.2) N14(2,-1.2) N15(2.8,-1.2) N16(3.6,-1.2) N17(4.4,-1.2) N18(5.2,-1.2) N19(6,-1.2) N20(6.8,-1.2) N21(7.6,-1.2) P2(-7.6,-2) P3(-6.8,-2) P4(-6,-2) P5(-5.2,-2) P6(-4.4,-2) P7(-3.6,-2) P8(-2.8,-2) P9(-2,-2) P10(-1.2,-2) P11(-0.4,-2) P12(0.4,-2) P13(1.2,-2) P14(2,-2) P15(2.8,-2) P16(3.6,-2) P17(4.4,-2) P18(5.2,-2) P19(6,-2) P20(6.8,-2) R1(-8.4,-2.8) R2(-7.6,-2.8) R3(-6.8,-2.8) R4(-6,-2.8) R5(-5.2,-2.8) R6(-4.4,-2.8) R7(-3.6,-2.8) R8(-2.8,-2.8) R9(-2,-2.8) R10(-1.2,-2.8) R11(-0.4,-2.8) R12(0.4,-2.8) R13(1.2,-2.8) R14(2,-2.8) R15(2.8,-2.8) R16(3.6,-2.8) R17(4.4,-2.8) R18(5.2,-2.8) R19(6,-2.8) R20(6.8,-2.8) R21(7.6,-2.8) R22(8.4,-2.8) T1(-8.4,-3.6) T2(-7.6,-3.6) T3(-6.8,-3.6) T4(-6,-3.6) T5(-5.2,-3.6) T6(-4.4,-3.6) T7(-3.6,-3.6) T8(-2.8,-3.6) T9(-2,-3.6) T10(-1.2,-3.6) T11(-0.4,-3.6) T12(0.4,-3.6) T13(1.2,-3.6) T14(2,-3.6) T15(2.8,-3.6) T16(3.6,-3.6) T17(4.4,-3.6) T18(5.2,-3.6) T19(6,-3.6) T20(6.8,-3.6) T21(7.6,-3.6) T22(8.4,-3.6) U3(-6.8,-4.4) U4(-6,-4.4) U5(-5.2,-4.4) U6(-4.4,-4.4) U7(-3.6,-4.4) U8(-2.8,-4.4) U9(-2,-4.4) U10(-1.2,-4.4) U11(-0.4,-4.4) U12(0.4,-4.4) U13(1.2,-4.4) U14(2,-4.4) U15(2.8,-4.4) U16(3.6,-4.4) U17(4.4,-4.4) U18(5.2,-4.4) U19(6,-4.4) U20(6.8,-4.4) U21(7.6,-4.4) V2(-7.6,-5.2) V3(-6.8,-5.2) V4(-6,-5.2) V5(-5.2,-5.2) V6(-4.4,-5.2) V7(-3.6,-5.2) V8(-2.8,-5.2) V9(-2,-5.2) V10(-1.2,-5.2) V11(-0.4,-5.2) V12(0.4,-5.2) V13(1.2,-5.2) V14(2,-5.2) V15(2.8,-5.2) V16(3.6,-5.2) V17(4.4,-5.2) V18(5.2,-5.2) V19(6,-5.2) V20(6.8,-5.2) W1(-8.4,-6) W2(-7.6,-6) W3(-6.8,-6) W4(-6,-6) W5(-5.2,-6) W6(-4.4,-6) W7(-3.6,-6) W8(-2.8,-6) W9(-2,-6) W10(-1.2,-6) W11(-0.4,-6) W12(0.4,-6) W13(1.2,-6) W14(2,-6) W15(2.8,-6) W16(3.6,-6) W17(4.4,-6) W18(5.2,-6) W19(6,-6) W20(6.8,-6) W21(7.6,-6) W22(8.4,-6) Y1(-8.4,-6.8) Y2(-7.6,-6.8) Y3(-6.8,-6.8) Y4(-6,-6.8) Y5(-5.2,-6.8) Y6(-4.4,-6.8) Y7(-3.6,-6.8) Y8(-2.8,-6.8) Y9(-2,-6.8) Y10(-1.2,-6.8) Y11(-0.4,-6.8) Y12(0.4,-6.8) Y13(1.2,-6.8) Y14(2,-6.8) Y15(2.8,-6.8) Y16(3.6,-6.8) Y17(4.4,-6.8) Y18(5.2,-6.8) Y19(6,-6.8) Y20(6.8,-6.8) Y21(7.6,-6.8) Y22(8.4,-6.8)
Top Overlay:
  circle w0.127: c-9.652,9.144 r0.2
  lines w0.152: -9.131,-9.131 -9.131,9.131 9.131,9.131 9.131,-9.131 -9.131,-9.131
Mechanical 13:
  lines w0.025: -9.004,8.604 -8.604,9.004 ; -9.004,-9.004 -9.004,9.004 9.004,9.004 9.004,-9.004 -9.004,-9.004
Mechanical 15:
  lines w0.152: -9.258,-9.258 9.258,-9.258 9.258,9.258 -9.258,9.258 -9.258,-9.258
3D body "TFBGA436X18.step": height 1.2, standoff 0, extent -9.004,-9.004 9.004,9.004

## ST-TSSOP20 [mm]
pads (20):
  rect 1.35x0.4 smd mask+0.05: 1(-2.875,2.925) 2(-2.875,2.275) 3(-2.875,1.625) 4(-2.875,0.975) 5(-2.875,0.325) 6(-2.875,-0.325) 7(-2.875,-0.975) 8(-2.875,-1.625) 9(-2.875,-2.275) 10(-2.875,-2.925) 11(2.875,-2.925) 12(2.875,-2.275) 13(2.875,-1.625) 14(2.875,-0.975) 15(2.875,-0.325) 16(2.875,0.325) 17(2.875,0.975) 18(2.875,1.625) 19(2.875,2.275) 20(2.875,2.925)
Top Overlay:
  circle w0.127: c-4.445,2.921 r0.2
  lines w0.152: -2.119,-3.429 2.119,-3.429 ; -2.119,3.429 2.119,3.429
Mechanical 13:
  lines w0: -0.305,3.302 ccw(c0,3.302) 0.305,3.302
  lines w0.025: -3.302,-3.077 -3.302,-2.773 -2.235,-2.773 -2.235,-3.077 -3.302,-3.077 ; -3.302,-2.427 -3.302,-2.123 -2.235,-2.123 -2.235,-2.427 -3.302,-2.427 ; -3.302,-1.777 -3.302,-1.473 -2.235,-1.473 -2.235,-1.777 -3.302,-1.777 ; -3.302,-1.127 -3.302,-0.823 -2.235,-0.823 -2.235,-1.127 -3.302,-1.127 ; -3.302,-0.477 -3.302,-0.173 -2.235,-0.173 -2.235,-0.477 -3.302,-0.477 ; -3.302,0.173 -3.302,0.477 -2.235,0.477 -2.235,0.173 -3.302,0.173 ; -3.302,0.823 -3.302,1.127 -2.235,1.127 -2.235,0.823 -3.302,0.823 ; -3.302,1.473 -3.302,1.777 -2.235,1.777 -2.235,1.473 -3.302,1.473 ; -3.302,2.123 -3.302,2.427 -2.235,2.427 -2.235,2.123 -3.302,2.123 ; -3.302,2.773 -3.302,3.077 -2.235,3.077 -2.235,2.773 -3.302,2.773 ; -2.235,-3.302 2.235,-3.302 2.235,3.302 -2.235,3.302 -2.235,-3.302 ; 2.235,-3.077 2.235,-2.773 3.302,-2.773 3.302,-3.077 2.235,-3.077 ; 2.235,-2.427 2.235,-2.123 3.302,-2.123 3.302,-2.427 2.235,-2.427 ; 2.235,-1.777 2.235,-1.473 3.302,-1.473 3.302,-1.777 2.235,-1.777 ; 2.235,-1.127 2.235,-0.823 3.302,-0.823 3.302,-1.127 2.235,-1.127 ; 2.235,-0.477 2.235,-0.173 3.302,-0.173 3.302,-0.477 2.235,-0.477 ; 2.235,0.173 2.235,0.477 3.302,0.477 3.302,0.173 2.235,0.173 ; 2.235,0.823 2.235,1.127 3.302,1.127 3.302,0.823 2.235,0.823 ; 2.235,1.473 2.235,1.777 3.302,1.777 3.302,1.473 2.235,1.473 ; 2.235,2.123 2.235,2.427 3.302,2.427 3.302,2.123 2.235,2.123 ; 2.235,2.773 2.235,3.077 3.302,3.077 3.302,2.773 2.235,2.773
Mechanical 15:
  lines w0.152: -3.912,-3.357 -3.912,3.357 -2.489,3.357 -2.489,3.556 2.489,3.556 2.489,3.357 3.912,3.357 3.912,-3.357 2.489,-3.357 2.489,-3.556 -2.489,-3.556 -2.489,-3.357 -3.912,-3.357
3D body "TSSOP20.step": height 1.2, standoff 0, extent -3.302,-3.302 3.302,3.302

## ST-UFBGA100X7 [mm] "意法半导体 UFBGA100 7X7x0.6mm p 0.5 推荐封装"
pads (100):
  round 0.28 smd paste+0 mask+0.045: A1(-2.75,2.75) A2(-2.25,2.75) A3(-1.75,2.75) A4(-1.25,2.75) A5(-0.75,2.75) A6(-0.25,2.75) A7(0.25,2.75) A8(0.75,2.75) A9(1.25,2.75) A10(1.75,2.75) A11(2.25,2.75) A12(2.75,2.75) B1(-2.75,2.25) B2(-2.25,2.25) B3(-1.75,2.25) B4(-1.25,2.25) B5(-0.75,2.25) B6(-0.25,2.25) B7(0.25,2.25) B8(0.75,2.25) B9(1.25,2.25) B10(1.75,2.25) B11(2.25,2.25) B12(2.75,2.25) C1(-2.75,1.75) C2(-2.25,1.75) C3(-1.75,1.75) C4(-1.25,1.75) C5(-0.75,1.75) C8(0.75,1.75) C9(1.25,1.75) C10(1.75,1.75) C11(2.25,1.75) C12(2.75,1.75) D1(-2.75,1.25) D2(-2.25,1.25) D3(-1.75,1.25) D10(1.75,1.25) D11(2.25,1.25) D12(2.75,1.25) E1(-2.75,0.75) E2(-2.25,0.75) E3(-1.75,0.75) E10(1.75,0.75) E11(2.25,0.75) E12(2.75,0.75) F1(-2.75,0.25) F2(-2.25,0.25) F11(2.25,0.25) F12(2.75,0.25) G1(-2.75,-0.25) G2(-2.25,-0.25) G11(2.25,-0.25) G12(2.75,-0.25) H1(-2.75,-0.75) H2(-2.25,-0.75) H3(-1.75,-0.75) H10(1.75,-0.75) H11(2.25,-0.75) H12(2.75,-0.75) J1(-2.75,-1.25) J2(-2.25,-1.25) J3(-1.75,-1.25) J10(1.75,-1.25) J11(2.25,-1.25) J12(2.75,-1.25) K1(-2.75,-1.75) K2(-2.25,-1.75) K3(-1.75,-1.75) K4(-1.25,-1.75) K5(-0.75,-1.75) K8(0.75,-1.75) K9(1.25,-1.75) K10(1.75,-1.75) K11(2.25,-1.75) K12(2.75,-1.75) L1(-2.75,-2.25) L2(-2.25,-2.25) L3(-1.75,-2.25) L4(-1.25,-2.25) L5(-0.75,-2.25) L6(-0.25,-2.25) L7(0.25,-2.25) L8(0.75,-2.25) L9(1.25,-2.25) L10(1.75,-2.25) L11(2.25,-2.25) L12(2.75,-2.25) M1(-2.75,-2.75) M2(-2.25,-2.75) M3(-1.75,-2.75) M4(-1.25,-2.75) M5(-0.75,-2.75) M6(-0.25,-2.75) M7(0.25,-2.75) M8(0.75,-2.75) M9(1.25,-2.75) M10(1.75,-2.75) M11(2.25,-2.75) M12(2.75,-2.75)
Top Overlay:
  circle w0.127: c-4.191,3.683 r0.2
  lines w0.152: -3.658,-3.658 -3.658,3.658 3.658,3.658 3.658,-3.658 -3.658,-3.658
Mechanical 13:
  lines w0.025: -3.531,3.281 -3.281,3.531 ; -3.531,-3.531 3.531,-3.531 3.531,3.531 -3.531,3.531 -3.531,-3.531
Mechanical 15:
  lines w0.152: -3.785,-3.785 3.785,-3.785 3.785,3.785 -3.785,3.785 -3.785,-3.785
3D body "UFBGA100X7.step": height 0.61, standoff 0, extent -3.531,-3.531 3.531,3.531

## ST-UFBGA176X10 [mm] "意法半导体 UFBGA176+25 10X10mm p 0.65 推荐封装"
pads (201):
  round 0.3 smd mask+0.05: A1(-4.55,4.55) A2(-3.9,4.55) A3(-3.25,4.55) A4(-2.6,4.55) A5(-1.95,4.55) A6(-1.3,4.55) A7(-0.65,4.55) A8(0,4.55) A9(0.65,4.55) A10(1.3,4.55) A11(1.95,4.55) A12(2.6,4.55) A13(3.25,4.55) A14(3.9,4.55) A15(4.55,4.55) B1(-4.55,3.9) B2(-3.9,3.9) B3(-3.25,3.9) B4(-2.6,3.9) B5(-1.95,3.9) B6(-1.3,3.9) B7(-0.65,3.9) B8(0,3.9) B9(0.65,3.9) B10(1.3,3.9) B11(1.95,3.9) B12(2.6,3.9) B13(3.25,3.9) B14(3.9,3.9) B15(4.55,3.9) C1(-4.55,3.25) C2(-3.9,3.25) C3(-3.25,3.25) C4(-2.6,3.25) C5(-1.95,3.25) C6(-1.3,3.25) C7(-0.65,3.25) C8(0,3.25) C9(0.65,3.25) C10(1.3,3.25) C11(1.95,3.25) C12(2.6,3.25) C13(3.25,3.25) C14(3.9,3.25) C15(4.55,3.25) D1(-4.55,2.6) D2(-3.9,2.6) D3(-3.25,2.6) D4(-2.6,2.6) D5(-1.95,2.6) D6(-1.3,2.6) D7(-0.65,2.6) D8(0,2.6) D9(0.65,2.6) D10(1.3,2.6) D11(1.95,2.6) D12(2.6,2.6) D13(3.25,2.6) D14(3.9,2.6) D15(4.55,2.6) E1(-4.55,1.95) E2(-3.9,1.95) E3(-3.25,1.95) E4(-2.6,1.95) E12(2.6,1.95) E13(3.25,1.95) E14(3.9,1.95) E15(4.55,1.95) F1(-4.55,1.3) F2(-3.9,1.3) F3(-3.25,1.3) F4(-2.6,1.3) F6(-1.3,1.3) F7(-0.65,1.3) F8(0,1.3) F9(0.65,1.3) F10(1.3,1.3) F12(2.6,1.3) F13(3.25,1.3) F14(3.9,1.3) F15(4.55,1.3) G1(-4.55,0.65) G2(-3.9,0.65) G3(-3.25,0.65) G4(-2.6,0.65) G6(-1.3,0.65) G7(-0.65,0.65) G8(0,0.65) G9(0.65,0.65) G10(1.3,0.65) G12(2.6,0.65) G13(3.25,0.65) G14(3.9,0.65) G15(4.55,0.65) H1(-4.55,0) H2(-3.9,0) H3(-3.25,0) H4(-2.6,0) H6(-1.3,0) H7(-0.65,0) H8(0,0) H9(0.65,0) H10(1.3,0) H12(2.6,0) H13(3.25,0) H14(3.9,0) H15(4.55,0) J1(-4.55,-0.65) J2(-3.9,-0.65) J3(-3.25,-0.65) J4(-2.6,-0.65) J6(-1.3,-0.65) J7(-0.65,-0.65) J8(0,-0.65) J9(0.65,-0.65) J10(1.3,-0.65) J12(2.6,-0.65) J13(3.25,-0.65) J14(3.9,-0.65) J15(4.55,-0.65) K1(-4.55,-1.3) K2(-3.9,-1.3) K3(-3.25,-1.3) K4(-2.6,-1.3) K6(-1.3,-1.3) K7(-0.65,-1.3) K8(0,-1.3) K9(0.65,-1.3) K10(1.3,-1.3) K12(2.6,-1.3) K13(3.25,-1.3) K14(3.9,-1.3) K15(4.55,-1.3) L1(-4.55,-1.95) L2(-3.9,-1.95) L3(-3.25,-1.95) L4(-2.6,-1.95) L12(2.6,-1.95) L13(3.25,-1.95) L14(3.9,-1.95) L15(4.55,-1.95) M1(-4.55,-2.6) M2(-3.9,-2.6) M3(-3.25,-2.6) M4(-2.6,-2.6) M5(-1.95,-2.6) M6(-1.3,-2.6) M7(-0.65,-2.6) M8(0,-2.6) M9(0.65,-2.6) M10(1.3,-2.6) M11(1.95,-2.6) M12(2.6,-2.6) M13(3.25,-2.6) M14(3.9,-2.6) M15(4.55,-2.6) N1(-4.55,-3.25) N2(-3.9,-3.25) N3(-3.25,-3.25) N4(-2.6,-3.25) N5(-1.95,-3.25) N6(-1.3,-3.25) N7(-0.65,-3.25) N8(0,-3.25) N9(0.65,-3.25) N10(1.3,-3.25) N11(1.95,-3.25) N12(2.6,-3.25) N13(3.25,-3.25) N14(3.9,-3.25) N15(4.55,-3.25) P1(-4.55,-3.9) P2(-3.9,-3.9) P3(-3.25,-3.9) P4(-2.6,-3.9) P5(-1.95,-3.9) P6(-1.3,-3.9) P7(-0.65,-3.9) P8(0,-3.9) P9(0.65,-3.9) P10(1.3,-3.9) P11(1.95,-3.9) P12(2.6,-3.9) P13(3.25,-3.9) P14(3.9,-3.9) P15(4.55,-3.9) R1(-4.55,-4.55) R2(-3.9,-4.55) R3(-3.25,-4.55) R4(-2.6,-4.55) R5(-1.95,-4.55) R6(-1.3,-4.55) R7(-0.65,-4.55) R8(0,-4.55) R9(0.65,-4.55) R10(1.3,-4.55) R11(1.95,-4.55) R12(2.6,-4.55) R13(3.25,-4.55) R14(3.9,-4.55) R15(4.55,-4.55)
Top Overlay:
  circle w0.127: c-5.715,5.08 r0.2
  lines w0.152: -5.156,-5.156 -5.156,5.156 5.156,5.156 5.156,-5.156 -5.156,-5.156
Mechanical 13:
  lines w0.025: -5.029,4.704 -4.704,5.029 ; -5.029,-5.029 -5.029,5.029 5.029,5.029 5.029,-5.029 -5.029,-5.029
Mechanical 15:
  lines w0.152: -5.283,-5.283 5.283,-5.283 5.283,5.283 -5.283,5.283 -5.283,-5.283
3D body "UFBGA176+25.step": height 0.61, standoff 0, extent -5.029,-5.029 5.029,5.029

## ST-UFQFPN32X5 [mm] "意法半导体 UFQFPN32 5X5mm 推荐封装"
pads (32):
  rect 0.6x0.3 smd mask+0.05: 1(-2.35,1.75) 2(-2.35,1.25) 3(-2.35,0.75) 4(-2.35,0.25) 5(-2.35,-0.25) 6(-2.35,-0.75) 7(-2.35,-1.25) 8(-2.35,-1.75) 17(2.35,-1.75) 18(2.35,-1.25) 19(2.35,-0.75) 20(2.35,-0.25) 21(2.35,0.25) 22(2.35,0.75) 23(2.35,1.25) 24(2.35,1.75)
  rect 0.3x0.6 smd mask+0.05: 9(-1.75,-2.35) 10(-1.25,-2.35) 11(-0.75,-2.35) 12(-0.25,-2.35) 13(0.25,-2.35) 14(0.75,-2.35) 15(1.25,-2.35) 16(1.75,-2.35) 25(1.75,2.35) 26(1.25,2.35) 27(0.75,2.35) 28(0.25,2.35) 29(-0.25,2.35) 30(-0.75,2.35) 31(-1.25,2.35) 32(-1.75,2.35)
Top Overlay:
  lines w0.152: -2.931,-2.078 -2.931,-2.931 -2.078,-2.931 ; -2.931,2.078 -2.931,2.931 -2.078,2.931 ; 2.078,-2.931 2.931,-2.931 2.931,-2.078 ; 2.078,2.931 2.931,2.931 2.931,2.078
Top Solder:
  region: -1.6,2.65 -1.9,2.65 -1.9,2.05 -1.6,2.05
  region: -1.1,2.65 -1.4,2.65 -1.4,2.05 -1.1,2.05
  region: -0.6,2.65 -0.9,2.65 -0.9,2.05 -0.6,2.05
  region: -0.1,2.65 -0.4,2.65 -0.4,2.05 -0.1,2.05
  region: 0.4,2.65 0.1,2.65 0.1,2.05 0.4,2.05
  region: 0.9,2.65 0.6,2.65 0.6,2.05 0.9,2.05
  region: 1.4,2.65 1.1,2.65 1.1,2.05 1.4,2.05
  region: 1.9,2.65 1.6,2.65 1.6,2.05 1.9,2.05
  region: 2.65,1.9 2.05,1.9 2.05,1.6 2.65,1.6
  region: 2.65,1.4 2.05,1.4 2.05,1.1 2.65,1.1
  region: 2.65,0.9 2.05,0.9 2.05,0.6 2.65,0.6
  region: 2.65,0.4 2.05,0.4 2.05,0.1 2.65,0.1
  region: 2.65,-0.1 2.05,-0.1 2.05,-0.4 2.65,-0.4
  region: 2.65,-0.6 2.05,-0.6 2.05,-0.9 2.65,-0.9
  region: 2.65,-1.1 2.05,-1.1 2.05,-1.4 2.65,-1.4
  region: 2.65,-1.6 2.05,-1.6 2.05,-1.9 2.65,-1.9
  region: 1.9,-2.05 1.6,-2.05 1.6,-2.65 1.9,-2.65
  region: 1.4,-2.05 1.1,-2.05 1.1,-2.65 1.4,-2.65
  region: 0.9,-2.05 0.6,-2.05 0.6,-2.65 0.9,-2.65
  region: 0.4,-2.05 0.1,-2.05 0.1,-2.65 0.4,-2.65
  region: -0.1,-2.05 -0.4,-2.05 -0.4,-2.65 -0.1,-2.65
  region: -0.6,-2.05 -0.9,-2.05 -0.9,-2.65 -0.6,-2.65
  region: -1.1,-2.05 -1.4,-2.05 -1.4,-2.65 -1.1,-2.65
  region: -1.6,-2.05 -1.9,-2.05 -1.9,-2.65 -1.6,-2.65
  region: -2.05,-1.6 -2.65,-1.6 -2.65,-1.9 -2.05,-1.9
  region: -2.05,-1.1 -2.65,-1.1 -2.65,-1.4 -2.05,-1.4
  region: -2.05,-0.6 -2.65,-0.6 -2.65,-0.9 -2.05,-0.9
  region: -2.05,-0.1 -2.65,-0.1 -2.65,-0.4 -2.05,-0.4
  region: -2.05,0.4 -2.65,0.4 -2.65,0.1 -2.05,0.1
  region: -2.05,0.9 -2.65,0.9 -2.65,0.6 -2.05,0.6
  region: -2.05,1.4 -2.65,1.4 -2.65,1.1 -2.05,1.1
  region: -2.05,1.9 -2.65,1.9 -2.65,1.6 -2.05,1.6
Mechanical 13:
  lines w0.025: -2.55,1.28 -1.28,2.55 ; -2.55,-2.55 -2.55,2.55 2.55,2.55 2.55,-2.55 -2.55,-2.55
Mechanical 15:
  lines w0.152: -2.904,-2.154 -2.904,2.154 -2.804,2.154 -2.804,2.804 -2.154,2.804 -2.154,2.904 2.154,2.904 2.154,2.804 2.804,2.804 2.804,2.154 2.904,2.154 2.904,-2.154 2.804,-2.154 2.804,-2.804 2.154,-2.804 2.154,-2.904 -2.154,-2.904 -2.154,-2.804 -2.804,-2.804 -2.804,-2.154 -2.904,-2.154
3D body "UFQFPN32.step": height 1.4, standoff 0, extent -2.601,-2.601 2.601,2.601

## ST-UFQFPN32X5-PAD [mm] "意法半导体 UFQFPN32 5X5mm 推荐封装 带散热焊盘"
pads (33):
  rect 0.6x0.3 smd mask+0.05: 1(-2.35,1.75) 2(-2.35,1.25) 3(-2.35,0.75) 4(-2.35,0.25) 5(-2.35,-0.25) 6(-2.35,-0.75) 7(-2.35,-1.25) 8(-2.35,-1.75) 17(2.35,-1.75) 18(2.35,-1.25) 19(2.35,-0.75) 20(2.35,-0.25) 21(2.35,0.25) 22(2.35,0.75) 23(2.35,1.25) 24(2.35,1.75)
  rect 0.3x0.6 smd mask+0.05: 9(-1.75,-2.35) 10(-1.25,-2.35) 11(-0.75,-2.35) 12(-0.25,-2.35) 13(0.25,-2.35) 14(0.75,-2.35) 15(1.25,-2.35) 16(1.75,-2.35) 25(1.75,2.35) 26(1.25,2.35) 27(0.75,2.35) 28(0.25,2.35) 29(-0.25,2.35) 30(-0.75,2.35) 31(-1.25,2.35) 32(-1.75,2.35)
  rect 3.45x3.45 smd: 33(0,0)
Top Overlay:
  lines w0.152: -2.931,-2.078 -2.931,-2.931 -2.078,-2.931 ; -2.931,2.078 -2.931,2.931 -2.078,2.931 ; 2.078,-2.931 2.931,-2.931 2.931,-2.078 ; 2.078,2.931 2.931,2.931 2.931,2.078
Top Solder:
  region: -2.05,1.9 -2.65,1.9 -2.65,1.6 -2.05,1.6
  region: -2.05,1.4 -2.65,1.4 -2.65,1.1 -2.05,1.1
  region: -2.05,0.9 -2.65,0.9 -2.65,0.6 -2.05,0.6
  region: -2.05,0.4 -2.65,0.4 -2.65,0.1 -2.05,0.1
  region: -2.05,-0.1 -2.65,-0.1 -2.65,-0.4 -2.05,-0.4
  region: -2.05,-0.6 -2.65,-0.6 -2.65,-0.9 -2.05,-0.9
  region: -2.05,-1.1 -2.65,-1.1 -2.65,-1.4 -2.05,-1.4
  region: -2.05,-1.6 -2.65,-1.6 -2.65,-1.9 -2.05,-1.9
  region: -1.6,-2.05 -1.9,-2.05 -1.9,-2.65 -1.6,-2.65
  region: -1.1,-2.05 -1.4,-2.05 -1.4,-2.65 -1.1,-2.65
  region: -0.6,-2.05 -0.9,-2.05 -0.9,-2.65 -0.6,-2.65
  region: -0.1,-2.05 -0.4,-2.05 -0.4,-2.65 -0.1,-2.65
  region: 0.4,-2.05 0.1,-2.05 0.1,-2.65 0.4,-2.65
  region: 0.9,-2.05 0.6,-2.05 0.6,-2.65 0.9,-2.65
  region: 1.4,-2.05 1.1,-2.05 1.1,-2.65 1.4,-2.65
  region: 1.9,-2.05 1.6,-2.05 1.6,-2.65 1.9,-2.65
  region: 2.65,-1.6 2.05,-1.6 2.05,-1.9 2.65,-1.9
  region: 2.65,-1.1 2.05,-1.1 2.05,-1.4 2.65,-1.4
  region: 2.65,-0.6 2.05,-0.6 2.05,-0.9 2.65,-0.9
  region: 2.65,-0.1 2.05,-0.1 2.05,-0.4 2.65,-0.4
  region: 2.65,0.4 2.05,0.4 2.05,0.1 2.65,0.1
  region: 2.65,0.9 2.05,0.9 2.05,0.6 2.65,0.6
  region: 2.65,1.4 2.05,1.4 2.05,1.1 2.65,1.1
  region: 2.65,1.9 2.05,1.9 2.05,1.6 2.65,1.6
  region: 1.9,2.65 1.6,2.65 1.6,2.05 1.9,2.05
  region: 1.4,2.65 1.1,2.65 1.1,2.05 1.4,2.05
  region: 0.9,2.65 0.6,2.65 0.6,2.05 0.9,2.05
  region: 0.4,2.65 0.1,2.65 0.1,2.05 0.4,2.05
  region: -0.1,2.65 -0.4,2.65 -0.4,2.05 -0.1,2.05
  region: -0.6,2.65 -0.9,2.65 -0.9,2.05 -0.6,2.05
  region: -1.1,2.65 -1.4,2.65 -1.4,2.05 -1.1,2.05
  region: -1.6,2.65 -1.9,2.65 -1.9,2.05 -1.6,2.05
Mechanical 13:
  lines w0.025: -2.55,1.28 -1.28,2.55 ; -2.55,-2.55 2.55,-2.55 2.55,2.55 -2.55,2.55 -2.55,-2.55
Mechanical 15:
  lines w0.152: -2.904,-2.154 -2.804,-2.154 -2.804,-2.804 -2.154,-2.804 -2.154,-2.904 2.154,-2.904 2.154,-2.804 2.804,-2.804 2.804,-2.154 2.904,-2.154 2.904,2.154 2.804,2.154 2.804,2.804 2.154,2.804 2.154,2.904 -2.154,2.904 -2.154,2.804 -2.804,2.804 -2.804,2.154 -2.904,2.154 -2.904,-2.154
3D body "UFQFPN32.step": height 1.4, standoff 0, extent -2.601,-2.601 2.601,2.601

## ST-UFQFPN48X7 [mm] "意法半导体 UFQFPN48 7X7mm 推荐封装"
pads (49):
  rect 0.55x0.3 smd mask+0.07: 1(-3.375,2.75) 2(-3.375,2.25) 3(-3.375,1.75) 4(-3.375,1.25) 5(-3.375,0.75) 6(-3.375,0.25) 7(-3.375,-0.25) 8(-3.375,-0.75) 9(-3.375,-1.25) 10(-3.375,-1.75) 11(-3.375,-2.25) 12(-3.375,-2.75) 25(3.375,-2.75) 26(3.375,-2.25) 27(3.375,-1.75) 28(3.375,-1.25) 29(3.375,-0.75) 30(3.375,-0.25) 31(3.375,0.25) 32(3.375,0.75) 33(3.375,1.25) 34(3.375,1.75) 35(3.375,2.25) 36(3.375,2.75)
  rect 0.3x0.55 smd mask+0.07: 13(-2.75,-3.375) 14(-2.25,-3.375) 15(-1.75,-3.375) 16(-1.25,-3.375) 17(-0.75,-3.375) 18(-0.25,-3.375) 19(0.25,-3.375) 20(0.75,-3.375) 21(1.25,-3.375) 22(1.75,-3.375) 23(2.25,-3.375) 24(2.75,-3.375) 37(2.75,3.375) 38(2.25,3.375) 39(1.75,3.375) 40(1.25,3.375) 41(0.75,3.375) 42(0.25,3.375) 43(-0.25,3.375) 44(-0.75,3.375) 45(-1.25,3.375) 46(-1.75,3.375) 47(-2.25,3.375) 48(-2.75,3.375)
  rect 5.6x5.6 smd mask+0.07: 49(0,0)
Top Overlay:
  circle w0.25: c-3.875,3.5 r0.125
Mechanical 15:
  lines w0.1: -3.5,3 -3,3.5 ; -3.5,-3.5 -3.5,3.5 3.5,3.5 3.5,-3.5 -3.5,-3.5
3D body "UFQFPN48X7.step": height 0.61, standoff 0, extent -3.556,-3.556 3.556,3.556